# EAGLE library part PCF85063TP/1Z (library RTC)
IC RTC CLK/CALENDAR I2C 8-SON Manufacturer's datasheet <https://www.nxp.com/docs/en/data-sheet/PCF85063TP.pdf>
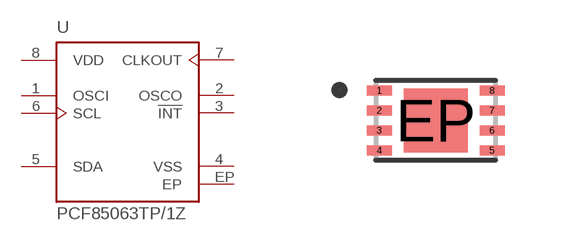
[diagram p5: symbol with the pads of PCF85063TP/1Z; footprint PCF85063TP/1Z]

Designator prefix U

## PCF85063TP/1Z (CREATED_BY: PCBLayout.com; DIGIKEY_PARTNO: 568-10236-1-ND; MANUFACTURER: NXP USA Inc.; MPN: PCF85063TP/1Z; PACKAGE: 8-WFDFN)  [PCF85063TP/1Z]
1  OSCI  in
2  OSCO  out
3  !INT  out
4  VSS  pwr
5  SDA
6  SCL  in
7  CLKOUT  out
8  VDD  pwr
EP  EP  pwr

## Footprint PCF85063TP/1Z (pad centres in mm)
smd 0.625 x 0.25: 1 -1.413,0.75; 2 -1.413,0.25; 3 -1.413,-0.25; 4 -1.413,-0.75; 5 1.413,-0.75; 6 1.413,-0.25; 7 1.413,0.25; 8 1.413,0.75
smd 1.6 x 1.6: EP 0,0